# EAGLE library part BOARD_A4988 (library A4988)
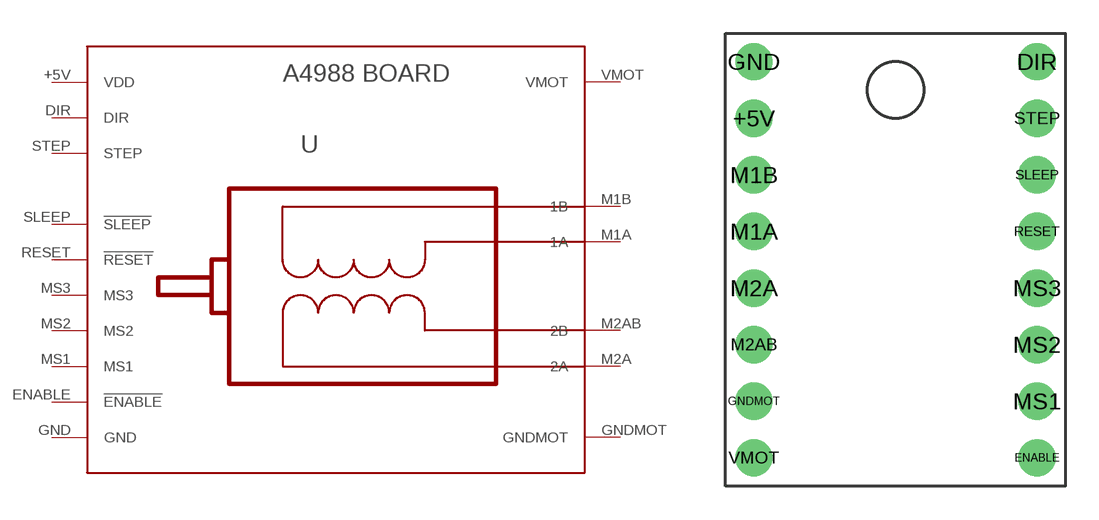
[diagram p7: symbol with the pads of BOARD_A4988; footprint BOARD_A4988]

Designator prefix -

## BOARD_A4988  [BOARD_A4988]
+5V  VDD  pwr
DIR  DIR  in
ENABLE  !ENABLE  in
GND  GND  pwr
GNDMOT  GNDMOT  pwr
M1A  1A  out
M1B  1B  out
M2A  2A  out
M2AB  2B  out
MS1  MS1  in
MS2  MS2  in
MS3  MS3  in
RESET  !RESET  in
SLEEP  !SLEEP  in
STEP  STEP  in
VMOT  VMOT  pwr

## Footprint BOARD_A4988 (pad centres in mm)
drill 0.8 pad 1.676: +5V 1.27,16.51; DIR 13.97,19.05; ENABLE 13.97,1.27; GND 1.27,19.05; GNDMOT 1.27,3.81; M1A 1.27,11.43; M1B 1.27,13.97; M2A 1.27,8.89; M2AB 1.27,6.35; MS1 13.97,3.81; MS2 13.97,6.35; MS3 13.97,8.89; RESET 13.97,11.43; SLEEP 13.97,13.97; STEP 13.97,16.51; VMOT 1.27,1.27